# Altium footprint library DO_SOD_SC_SMA_SMB_SMC.PcbLib: 14 footprints
Each footprint in its own frame and in the unit in brackets; x right, y up, seen from the top. Pads: shape width x height; smd on the part's side, far side on the other; paste and mask are expansions set on the pad; w line width, h text height; cw(c..) or ccw(c..) is an arc to the next point about the centre after c.
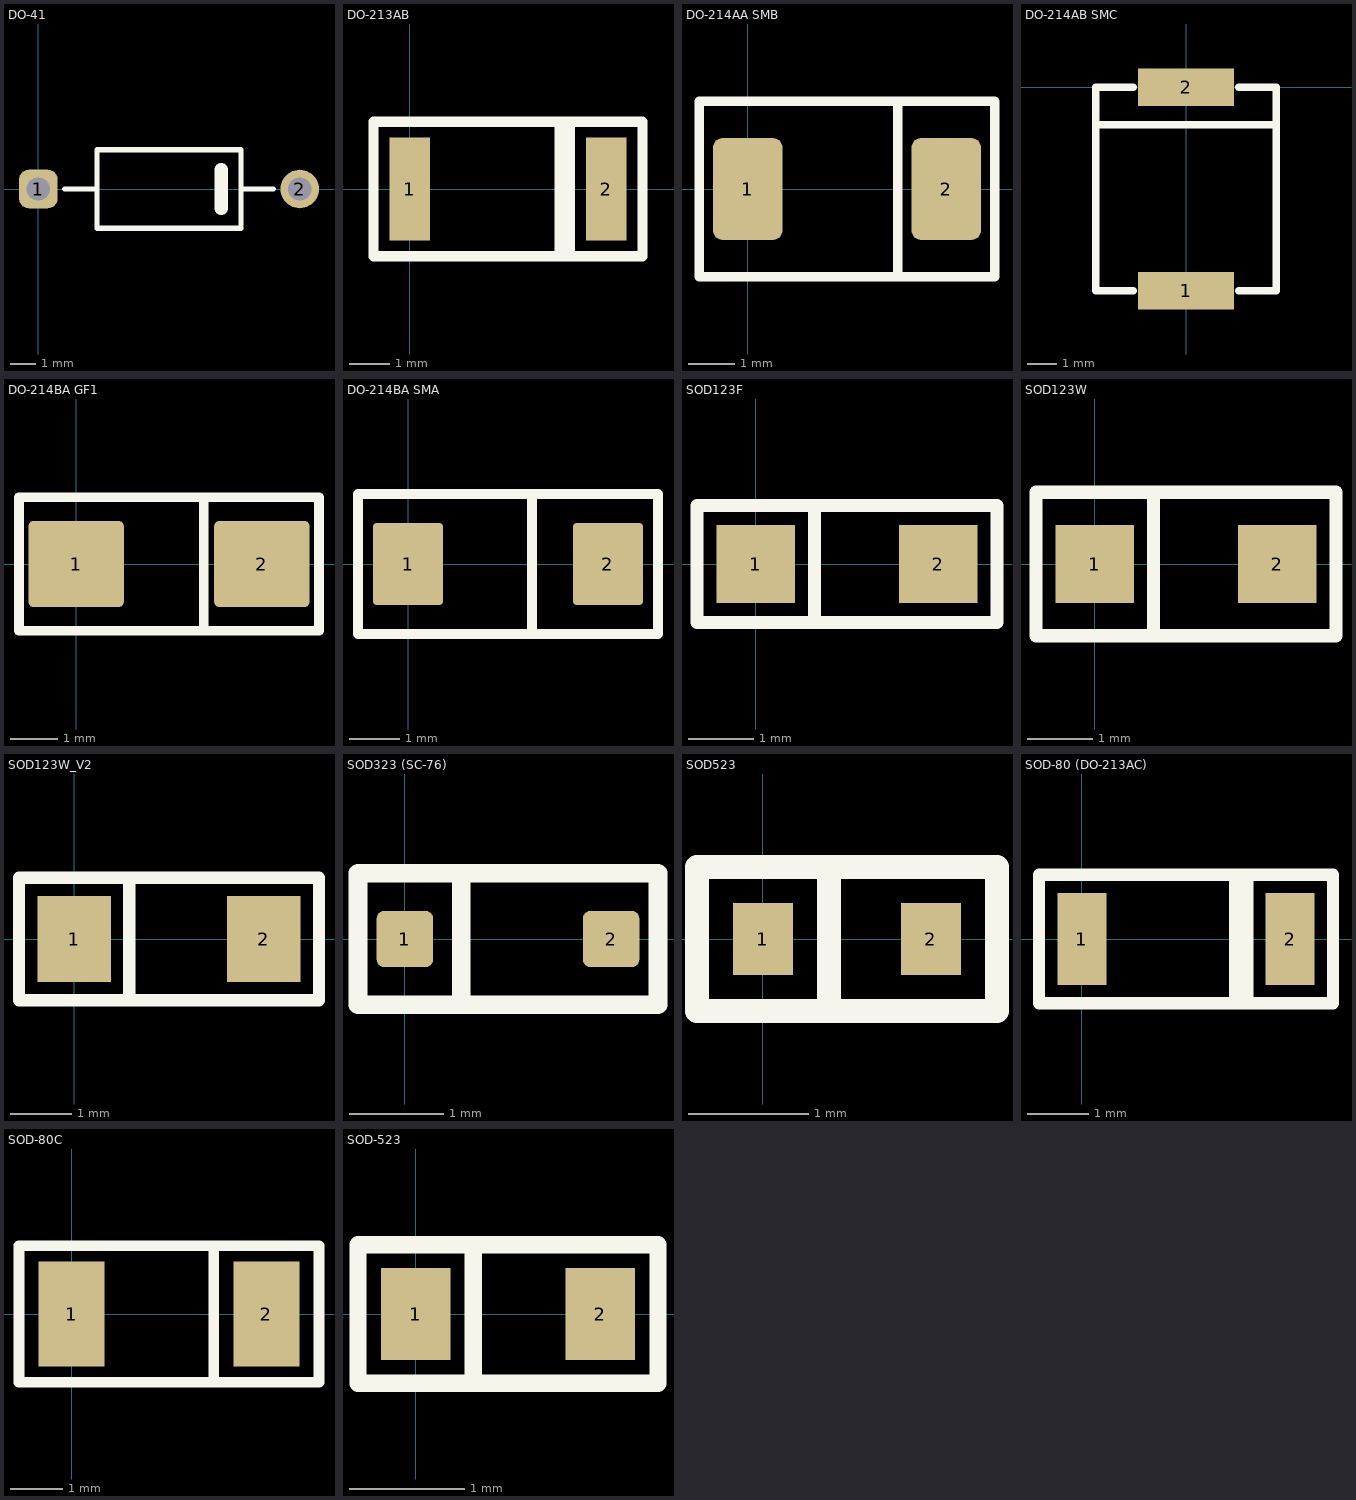
[diagram p0: the footprints below, top view; thin cyan lines are the x and y axes]

## DO-41 [mm]
pads (2):
  rrect50% 1.5x1.5 hole 0.9: 1(0,0)
  round 1.5 hole 0.9: 2(10.16,0)
Top Overlay:
  lines w0.2: 1.016,0 2.286,0 ; 7.874,0 9.144,0 ; 2.286,-1.524 2.286,1.524 7.874,1.524 7.874,-1.524 2.286,-1.524
  lines w0.508: 7.112,-0.762 7.112,0.762
Top Assembly:
  text ".Designator" at -0.198,-0.333 h1
3D body "User Library-DO-41-2.STEP": height 2.82, standoff -2.5, extent -0.424,-1.36 10.6,1.36

## DO-213AB [mm]
pads (2):
  rect 1x2.54 smd: 1(0,0) 2(4.826,0)
Top Overlay:
  lines w0.254: -0.889,-1.651 5.715,-1.651 5.715,1.651 -0.889,1.651 -0.889,-1.651
  lines w0.508: 3.81,-1.524 3.81,1.524
Top Assembly:
  text ".Designator" at -2.399,-0.267 h0.8
3D body "User Library-Vishay - MELF DO-213AB.STEP": height 2.64, standoff -0.04, extent -0.19,-1.34 5.01,1.33

## DO-214AA SMB [mm]
pads (2):
  rrect25% 1.5x2.2 smd: 1(0,0) 2(4.3,0)
Top Overlay:
  lines w0.2: 3.25,-1.9 3.25,1.9 ; -1.05,-1.9 -1.05,1.9 5.35,1.9 5.35,-1.9 -1.05,-1.9
Top Assembly:
  text ".Designator" at -2.799,-0.267 h0.8
3D body "SW3dPS-DO-214AA SMB.STEP": height 2.3, standoff 0, extent -0.55,-1.8 4.85,1.8

## DO-214AB SMC [mm]
pads (2):
  rect 3.25x1.27 smd: 1(0,-6.858) 2(0,0)
Top Overlay:
  lines w0.254: -3.048,-1.27 3.048,-1.27 ; -1.778,-6.858 -3.048,-6.858 -3.048,0 -1.778,0 ; 1.778,-6.858 3.048,-6.858 3.048,0 1.778,0
Top Assembly:
  text ".Designator" at 0.333,-9.198 h1
3D body "SW3dPS-DO-214AB SMC.STEP": height 2.31, standoff 0.01, extent -2.95,-7.4 2.95,0.55

## DO-214BA GF1 [mm]
pads (2):
  rrect10% 2x1.8 smd: 1(0,0) 2(3.9,0)
Top Overlay:
  lines w0.2: 2.675,-1.4 2.675,1.4 ; -1.2,-1.4 -1.2,1.4 5.1,1.4 5.1,-1.4 -1.2,-1.4
Top Assembly:
  text ".Designator" at -2.898,2.167 h1
3D body "DO-214BA.STEP": height 3.01, standoff 0.05, extent -0.675,-1.3 4.575,1.3

## DO-214BA SMA [mm]
pads (2):
  rrect10% 1.4x1.64 smd: 1(0,0) 2(4,0)
Top Overlay:
  lines w0.2: 2.475,-1.4 2.475,1.4 ; -1,-1.4 5,-1.4 5,1.4 -1,1.4 -1,-1.4
Top Assembly:
  text ".Designator" at -2.898,2.167 h1
3D body "User Library-Diode Molded BodyDIOM5025X231N.STEP": height 2.3, standoff -0.01, extent -0.5,-1.35 4.5,1.35

## SOD123F [mm]
pads (2):
  rect 1.2x1.2 smd: 1(0,0) 2(2.8,0)
Top Overlay:
  lines w0.2: 0.9,-0.9 0.9,0.9 ; -0.9,-0.9 -0.9,0.9 3.7,0.9 3.7,-0.9 -0.9,-0.9
Top Assembly:
  text ".Designator" at -1.999,-1.733 h0.7
3D body "User Library-SOD123F.STEP": height 1.2, standoff -0.01, extent -0.475,-0.85 3.275,0.85

## SOD123W [mm]
pads (2):
  rect 1.2x1.2 smd: 1(0,0) 2(2.8,0)
Top Overlay:
  lines w0.2: 0.9,-1.1 0.9,1.1 ; -0.9,-1.1 -0.9,1.1 3.7,1.1 3.7,-1.1 -0.9,-1.1
Top Assembly:
  text ".Designator" at -1.213,-0.233 h0.7
3D body "User Library-SOD123W.STEP": height 1.1, standoff -0.01, extent -0.6,-0.95 3.4,0.95

## SOD123W_V2 [mm]
pads (2):
  rect 1.2x1.4 smd: 1(0,0) 2(3.1,0)
Top Overlay:
  lines w0.2: 0.901,-1 0.902,1 ; -0.9,-1 -0.9,1 4,1 4,-1 -0.9,-1
Top Assembly:
  text ".Designator" at -1.086,-0.233 h0.7
3D body "User Library-SOD123W.STEP": height 1.1, standoff -0.01, extent -0.45,-0.95 3.55,0.95

## SOD323 (SC-76) [mm]
pads (2):
  rrect25% 0.6x0.6 smd: 1(0,0) 2(2.2,0)
Top Overlay:
  lines w0.2: 0.6,-0.7 0.6,0.7 ; -0.5,-0.7 -0.5,0.7 2.7,0.7 2.7,-0.7 -0.5,-0.7
Top Assembly:
  text ".Designator" at -2.399,-1.733 h0.7
3D body "User Library-SOD323.STEP": height 0.98, standoff -0.01, extent -0.15,-0.625 2.35,0.625

## SOD523 [mm]
height 0.65
pads (2):
  rect 0.5x0.6 smd: 1(0,0) 2(1.4,0)
Top Overlay:
  lines w0.2: 0.55,-0.6 0.55,0.6 ; -0.55,-0.6 -0.55,0.6 1.95,0.6 1.95,-0.6 -0.55,-0.6
Top Assembly:
  text ".Designator" at -2.702,-1.508 h0.7
3D body "User Library-SOD523-2.STEP": height 0.65, standoff 0, extent -0.125,-0.4 1.525,0.4

## SOD-80 (DO-213AC) [mm]
pads (2):
  rect 0.8x1.5 smd: 1(0,0) 2(3.4,0)
Top Overlay:
  lines w0.2: -0.7,-1.05 -0.7,1.05 4.1,1.05 4.1,-1.05 -0.7,-1.05
  lines w0.4: 2.6,-0.95 2.6,0.95
Top Assembly:
  text ".Designator" at -2.599,-0.333 h0.7
3D body "User Library-Diode MELFDIOMELF3414N.STEP": height 1.4, standoff 0, extent 0,-0.7 3.4,0.7

## SOD-80C [mm]
pads (2):
  rect 1.25x2 smd: 1(0,0) 2(3.7,0)
Top Overlay:
  lines w0.2: 2.7,-1.3 2.7,1.3 ; -1,-1.3 -1,1.3 4.7,1.3 4.7,-1.3 -1,-1.3
Top Assembly:
  text ".Designator" at -2.599,-0.233 h0.7
3D body "User Library-Diode MELFDIOMELF3520N.STEP": height 2.02, standoff 0.02, extent 0.14,-1 3.64,1

## SOD-523 [mm]
pads (2):
  rect 0.6x0.8 smd: 1(0,0) 2(1.6,0)
Top Overlay:
  lines w0.15: 0.5,-0.6 0.5,0.6 ; -0.5,-0.6 -0.5,0.6 2.1,0.6 2.1,-0.6 -0.5,-0.6
Top Assembly:
  text ".Designator" at -2.599,-1.533 h0.7
3D body "User Library-SOD-523F.STEP": height 0.7, standoff 0, extent 0,-0.4 1.6,0.398